# EAGLE library part ATSAMD21E (library Atmel)
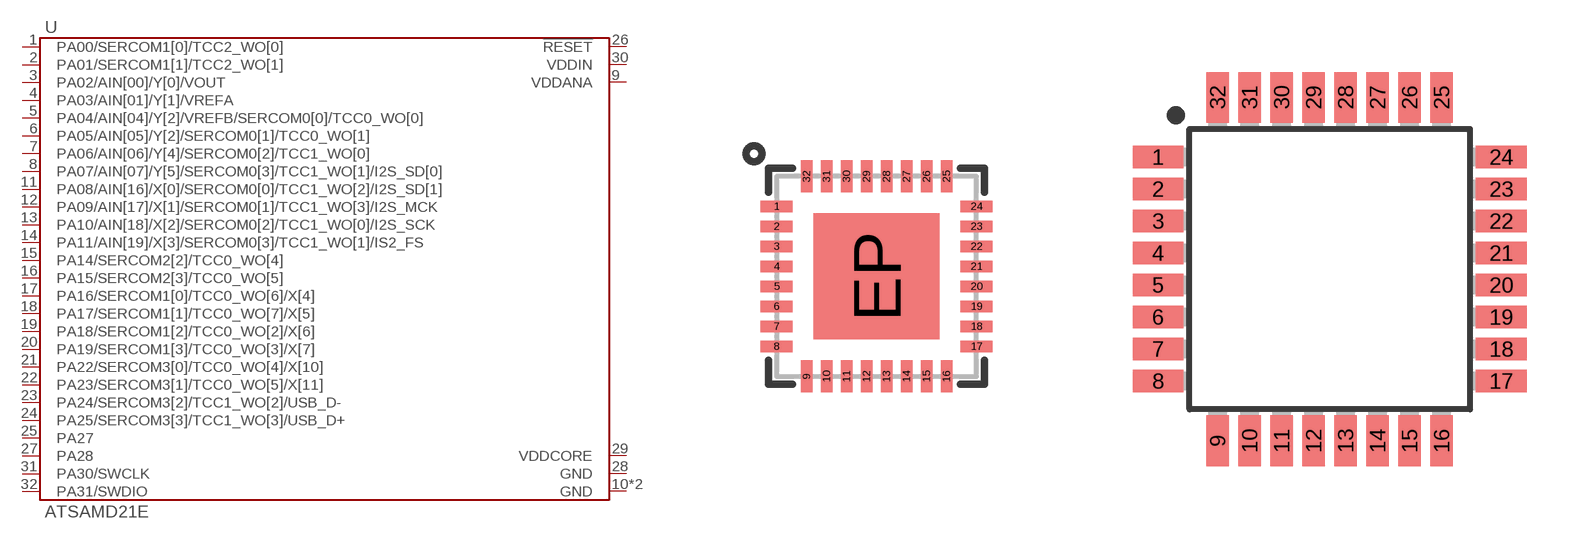
[diagram p14: symbol with the pads of QFN-32; footprints QFN-32, TQFP-32]

Designator prefix U

## ATSAMD21E-MU  [QFN-32]
1  PA00/SERCOM1[0]/TCC2_WO[0]
2  PA01/SERCOM1[1]/TCC2_WO[1]
3  PA02/AIN[00]/Y[0]/VOUT
4  PA03/AIN[01]/Y[1]/VREFA
5  PA04/AIN[04]/Y[2]/VREFB/SERCOM0[0]/TCC0_WO[0]
6  PA05/AIN[05]/Y[2]/SERCOM0[1]/TCC0_WO[1]
7  PA06/AIN[06]/Y[4]/SERCOM0[2]/TCC1_WO[0]
8  PA07/AIN[07]/Y[5]/SERCOM0[3]/TCC1_WO[1]/I2S_SD[0]
9  VDDANA
10  GND
11  PA08/AIN[16]/X[0]/SERCOM0[0]/TCC1_WO[2]/I2S_SD[1]
12  PA09/AIN[17]/X[1]/SERCOM0[1]/TCC1_WO[3]/I2S_MCK
13  PA10/AIN[18]/X[2]/SERCOM0[2]/TCC1_WO[0]/I2S_SCK
14  PA11/AIN[19]/X[3]/SERCOM0[3]/TCC1_WO[1]/IS2_FS
15  PA14/SERCOM2[2]/TCC0_WO[4]
16  PA15/SERCOM2[3]/TCC0_WO[5]
17  PA16/SERCOM1[0]/TCC0_WO[6]/X[4]
18  PA17/SERCOM1[1]/TCC0_WO[7]/X[5]
19  PA18/SERCOM1[2]/TCC0_WO[2]/X[6]
20  PA19/SERCOM1[3]/TCC0_WO[3]/X[7]
21  PA22/SERCOM3[0]/TCC0_WO[4]/X[10]
22  PA23/SERCOM3[1]/TCC0_WO[5]/X[11]
23  PA24/SERCOM3[2]/TCC1_WO[2]/USB_D-
24  PA25/SERCOM3[3]/TCC1_WO[3]/USB_D+
25  PA27
26  !RESET
27  PA28
28  GND
29  VDDCORE
30  VDDIN
31  PA30/SWCLK
32  PA31/SWDIO
EP  GND

## ATSAMD21E-AU  [TQFP-32]
1  PA00/SERCOM1[0]/TCC2_WO[0]
2  PA01/SERCOM1[1]/TCC2_WO[1]
3  PA02/AIN[00]/Y[0]/VOUT
4  PA03/AIN[01]/Y[1]/VREFA
5  PA04/AIN[04]/Y[2]/VREFB/SERCOM0[0]/TCC0_WO[0]
6  PA05/AIN[05]/Y[2]/SERCOM0[1]/TCC0_WO[1]
7  PA06/AIN[06]/Y[4]/SERCOM0[2]/TCC1_WO[0]
8  PA07/AIN[07]/Y[5]/SERCOM0[3]/TCC1_WO[1]/I2S_SD[0]
9  VDDANA
10  GND
11  PA08/AIN[16]/X[0]/SERCOM0[0]/TCC1_WO[2]/I2S_SD[1]
12  PA09/AIN[17]/X[1]/SERCOM0[1]/TCC1_WO[3]/I2S_MCK
13  PA10/AIN[18]/X[2]/SERCOM0[2]/TCC1_WO[0]/I2S_SCK
14  PA11/AIN[19]/X[3]/SERCOM0[3]/TCC1_WO[1]/IS2_FS
15  PA14/SERCOM2[2]/TCC0_WO[4]
16  PA15/SERCOM2[3]/TCC0_WO[5]
17  PA16/SERCOM1[0]/TCC0_WO[6]/X[4]
18  PA17/SERCOM1[1]/TCC0_WO[7]/X[5]
19  PA18/SERCOM1[2]/TCC0_WO[2]/X[6]
20  PA19/SERCOM1[3]/TCC0_WO[3]/X[7]
21  PA22/SERCOM3[0]/TCC0_WO[4]/X[10]
22  PA23/SERCOM3[1]/TCC0_WO[5]/X[11]
23  PA24/SERCOM3[2]/TCC1_WO[2]/USB_D-
24  PA25/SERCOM3[3]/TCC1_WO[3]/USB_D+
25  PA27
26  !RESET
27  PA28
28  GND
29  VDDCORE
30  VDDIN
31  PA30/SWCLK
32  PA31/SWDIO

## ATSAMD21E-MU2  [QFN-32-5MM]
1  PA00/SERCOM1[0]/TCC2_WO[0]
2  PA01/SERCOM1[1]/TCC2_WO[1]
3  PA02/AIN[00]/Y[0]/VOUT
4  PA03/AIN[01]/Y[1]/VREFA
5  PA04/AIN[04]/Y[2]/VREFB/SERCOM0[0]/TCC0_WO[0]
6  PA05/AIN[05]/Y[2]/SERCOM0[1]/TCC0_WO[1]
7  PA06/AIN[06]/Y[4]/SERCOM0[2]/TCC1_WO[0]
8  PA07/AIN[07]/Y[5]/SERCOM0[3]/TCC1_WO[1]/I2S_SD[0]
9  VDDANA
10  GND
11  PA08/AIN[16]/X[0]/SERCOM0[0]/TCC1_WO[2]/I2S_SD[1]
12  PA09/AIN[17]/X[1]/SERCOM0[1]/TCC1_WO[3]/I2S_MCK
13  PA10/AIN[18]/X[2]/SERCOM0[2]/TCC1_WO[0]/I2S_SCK
14  PA11/AIN[19]/X[3]/SERCOM0[3]/TCC1_WO[1]/IS2_FS
15  PA14/SERCOM2[2]/TCC0_WO[4]
16  PA15/SERCOM2[3]/TCC0_WO[5]
17  PA16/SERCOM1[0]/TCC0_WO[6]/X[4]
18  PA17/SERCOM1[1]/TCC0_WO[7]/X[5]
19  PA18/SERCOM1[2]/TCC0_WO[2]/X[6]
20  PA19/SERCOM1[3]/TCC0_WO[3]/X[7]
21  PA22/SERCOM3[0]/TCC0_WO[4]/X[10]
22  PA23/SERCOM3[1]/TCC0_WO[5]/X[11]
23  PA24/SERCOM3[2]/TCC1_WO[2]/USB_D-
24  PA25/SERCOM3[3]/TCC1_WO[3]/USB_D+
25  PA27
26  !RESET
27  PA28
28  GND
29  VDDCORE
30  VDDIN
31  PA30/SWCLK
32  PA31/SWDIO
PAD  GND

## Footprint QFN-32 (pad centres in mm)
smd 0.8 x 0.285: 1 -2.5,1.75; 2 -2.5,1.25; 3 -2.5,0.75; 4 -2.5,0.25; 5 -2.5,-0.25; 6 -2.5,-0.75; 7 -2.5,-1.25; 8 -2.5,-1.75; 17 2.5,-1.75; 18 2.5,-1.25; 19 2.5,-0.75; 20 2.5,-0.25; 21 2.5,0.25; 22 2.5,0.75; 23 2.5,1.25; 24 2.5,1.75
smd 0.285 x 0.8: 9 -1.75,-2.5; 10 -1.25,-2.5; 11 -0.75,-2.5; 12 -0.25,-2.5; 13 0.25,-2.5; 14 0.75,-2.5; 15 1.25,-2.5; 16 1.75,-2.5; 25 1.75,2.5; 26 1.25,2.5; 27 0.75,2.5; 28 0.25,2.5; 29 -0.25,2.5; 30 -0.75,2.5; 31 -1.25,2.5; 32 -1.75,2.5
smd 3.15 x 3.15: EP 0,0

## Footprint TQFP-32 (pad centres in mm)
smd 1.27 x 0.559: 1 -4.293,2.8; 2 -4.293,2; 3 -4.293,1.2; 4 -4.293,0.4; 5 -4.293,-0.4; 6 -4.293,-1.2; 7 -4.293,-2; 8 -4.293,-2.8; 17 4.293,-2.8; 18 4.293,-2; 19 4.293,-1.2; 20 4.293,-0.4; 21 4.293,0.4; 22 4.293,1.2; 23 4.293,2; 24 4.293,2.8
smd 0.559 x 1.27: 9 -2.8,-4.293; 10 -2,-4.293; 11 -1.2,-4.293; 12 -0.4,-4.293; 13 0.4,-4.293; 14 1.2,-4.293; 15 2,-4.293; 16 2.8,-4.293; 25 2.8,4.293; 26 2,4.293; 27 1.2,4.293; 28 0.4,4.293; 29 -0.4,4.293; 30 -1.2,4.293; 31 -2,4.293; 32 -2.8,4.293

## Footprint QFN-32-5MM (pad centres in mm)
smd 0.6 x 0.3: 1 -2.4,1.75; 2 -2.4,1.25; 3 -2.4,0.75; 4 -2.4,0.25; 5 -2.4,-0.25; 6 -2.4,-0.75; 7 -2.4,-1.25; 8 -2.4,-1.75; 17 2.4,-1.75; 18 2.4,-1.25; 19 2.4,-0.75; 20 2.4,-0.25; 21 2.4,0.25; 22 2.4,0.75; 23 2.4,1.25; 24 2.4,1.75
smd 0.3 x 0.6: 9 -1.75,-2.4; 10 -1.25,-2.4; 11 -0.75,-2.4; 12 -0.25,-2.4; 13 0.25,-2.4; 14 0.75,-2.4; 15 1.25,-2.4; 16 1.75,-2.4; 25 1.75,2.4; 26 1.25,2.4; 27 0.75,2.4; 28 0.25,2.4; 29 -0.25,2.4; 30 -0.75,2.4; 31 -1.25,2.4; 32 -1.75,2.4
smd 3.6 x 3.6: PAD 0,0